# Altium schematic symbol library LM75-MSOP8.SchLib: 1 symbol
Pins are listed as number, name and electrical type; pins without a type are passive.

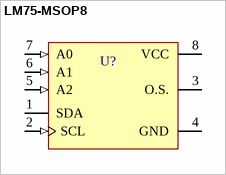
[diagram p0: symbol LM75-MSOP8]

## LM75-MSOP8
designator U?  (value not drawn)
pins: 1 SDA (oc), 2 SCL (in), 3 O.S. (oc), 4 GND (power), 5 A2 (in), 6 A1 (in), 7 A0 (in), 8 VCC (power)